# Altium footprint library RayPCB20210502.PcbLib: 218 footprints (part 14 of 14)
Each footprint in its own frame and in the unit in brackets; x right, y up, seen from the top. Pads: shape width x height; smd on the part's side, far side on the other; paste and mask are expansions set on the pad; w line width, h text height; cw(c..) or ccw(c..) is an arc to the next point about the centre after c.
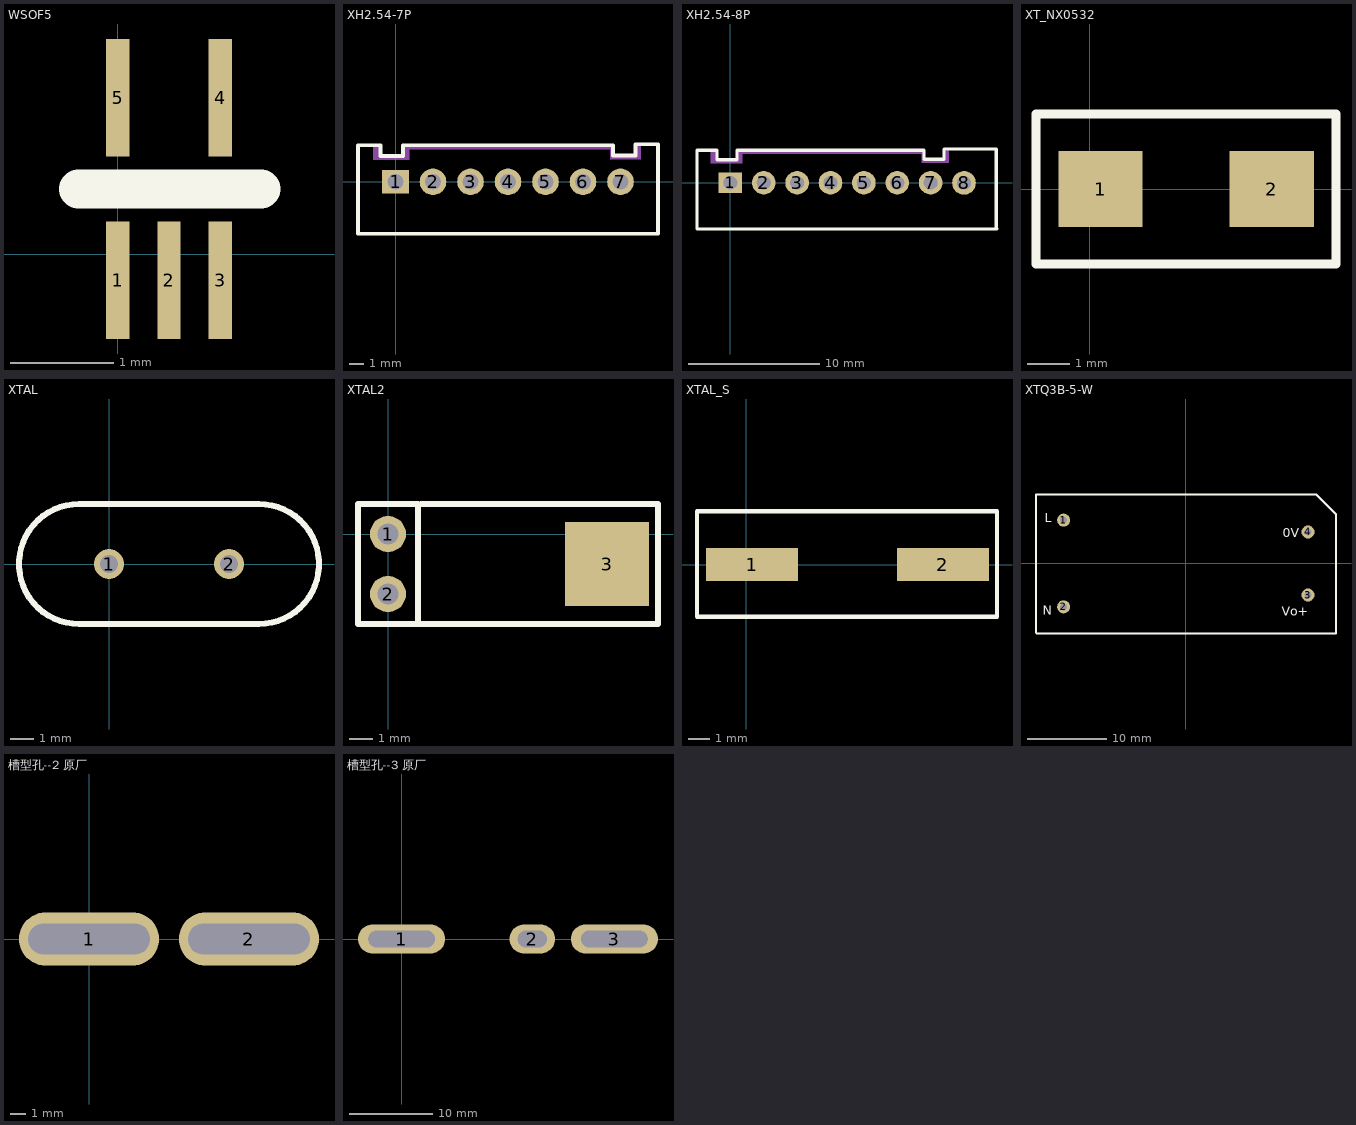
[diagram p13: the footprints below, top view; thin cyan lines are the x and y axes]

## WSOF5 [mil] "BH1721"
pads (5):
  rect 9x45 smd: 1(0,-10) 2(19.68,-10) 3(39.37,-10) 4(39.37,60) 5(0,60)
Top Overlay:
  lines w15: -15,25 55,25

## XH2.54-7P [mm]
pads (7):
  rect 1.8x1.575 hole 1 slot 1.05 at 0 deg: 1(0,0)
  round 1.8 hole 1 slot 1.05 at 0 deg: 2(2.54,0) 3(5.08,0) 4(7.62,0) 5(10.16,0) 6(12.7,0) 7(15.24,0)
Top Overlay:
  lines w0.254: 16.256,2.512 16.256,1.782 14.732,1.782 14.732,2.48 9.652,2.48 7.112,2.48 0.508,2.48 0.508,1.75 -1.016,1.75 -1.016,2.48 -2.54,2.48 -2.54,-3.52 10.16,-3.52 12.7,-3.52 17.78,-3.52 ; 16.256,2.544 17.78,2.544 ; 17.78,-3.488 17.78,2.512
Mechanical 15:
  region: -1.08,2.41 -1.08,1.77 -1.1,1.75 0.57,1.75 0.58,1.74 0.58,2.41 14.76,2.41 14.76,1.76 14.78,1.74 16.25,1.74 16.27,1.72 16.27,2.38 16.31,2.42 16.6,2.42 16.6,1.53 16.61,1.52 14.56,1.52 14.55,1.51 14.55,2.19 14.54,2.2 0.93,2.2 0.92,2.19 0.92,1.49 -1.51,1.49 -1.51,2.4 -1.53,2.42

## XH2.54-8P [mm]
pads (8):
  rect 1.8x1.575 hole 1 slot 1.05 at 0 deg: 1(0,0)
  round 1.8 hole 1 slot 1.05 at 0 deg: 2(2.54,0) 3(5.08,0) 4(7.62,0) 5(10.16,0) 6(12.7,0) 7(15.24,0) 8(17.78,-0.01)
Top Overlay:
  lines w0.254: 16.256,2.512 16.256,1.782 14.732,1.782 14.732,2.48 9.652,2.48 7.112,2.48 0.508,2.48 0.508,1.75 -1.016,1.75 -1.016,2.48 -2.54,2.48 -2.54,-3.52 10.16,-3.52 12.7,-3.52 20.29,-3.49 ; 16.256,2.544 20.24,2.57 ; 20.24,-3.44 20.24,2.56
Mechanical 15:
  region: -1.08,2.41 -1.08,1.77 -1.1,1.75 0.57,1.75 0.58,1.74 0.58,2.41 14.76,2.41 14.76,1.76 14.78,1.74 16.25,1.74 16.27,1.72 16.27,2.38 16.31,2.42 16.6,2.42 16.6,1.53 16.61,1.52 14.56,1.52 14.55,1.51 14.55,2.19 14.54,2.2 0.93,2.2 0.92,2.19 0.92,1.49 -1.51,1.49 -1.51,2.4 -1.53,2.42

## XT_NX0532 [mm]
pads (2):
  rect 2x1.8 smd: 1(0.26,0) 2(4.318,0)
Top Overlay:
  lines w0.203: -1.27,-1.778 5.842,-1.778 5.842,1.778 -1.27,1.778 -1.27,-1.778

## XTAL [mil]
pads (2):
  round 50 hole 30: 1(0,0) 2(200,0)
Top Overlay:
  lines w10: -50,-100 cw(c-50,0) -50,100 250,100 cw(c250,0) 250,-100 -50,-100

## XTAL2 [mil] "32.768KHZ CRYSTAL"
pads (3):
  round 60 hole 35: 1(0,0) 2(0,-100)
  rect 140x140 smd: 3(365,-50)
Top Overlay:
  lines w10: 55,50 450,50 450,-150 50,-150 ; 50,-150 -50,-150 -50,50 50,50 50,-150

## XTAL_S [mm]
pads (2):
  rect 4.2x1.524 smd: 1(0.26,0) 2(8.97,0)
Top Overlay:
  lines w0.203: -2.257,-2.388 -2.257,2.438 11.443,2.438 11.443,-2.388 -2.257,-2.388

## XTQ3B-5-W [mil] "AC_DCXTQ3B-5-W"
pads (4):
  round 65 hole 35: 1(-610.24,216.54) 2(-610.24,-216.54) 3(610.24,-157.48) 4(610.24,157.48)
Top Overlay:
  lines w10: -748.03,-344.49 -748.03,344.49 650.51,344.49 750,245 ; -745,-350 750,-350 750,245 ; 640,345 650,345 750,245
  text "0V" at 485,130 h45
  text "Vo+" at 480,-260 h45
  text "N" at -715,-255 h45
  text "L" at -705,205 h45

## 槽型孔--2 原厂 [mm]
pads (2):
  oval 9.2x3.5 hole 2 slot 8 at 0 deg paste+0: 1(0,0) 2(10.5,0)

## 槽型孔--3 原厂 [mm]
pads (3):
  oval 10.5x3.5 hole 2 slot 8 at 0 deg paste+0: 1(0,0) 3(25.634,0)
  oval 5.5x3.5 hole 2 slot 3.5 at 0 deg paste+0: 2(15.748,0)